# Altium schematic symbol library ESP32_Board_Components.SchLib: 7 symbols
Pins are listed as number, name and electrical type; pins without a type are passive.

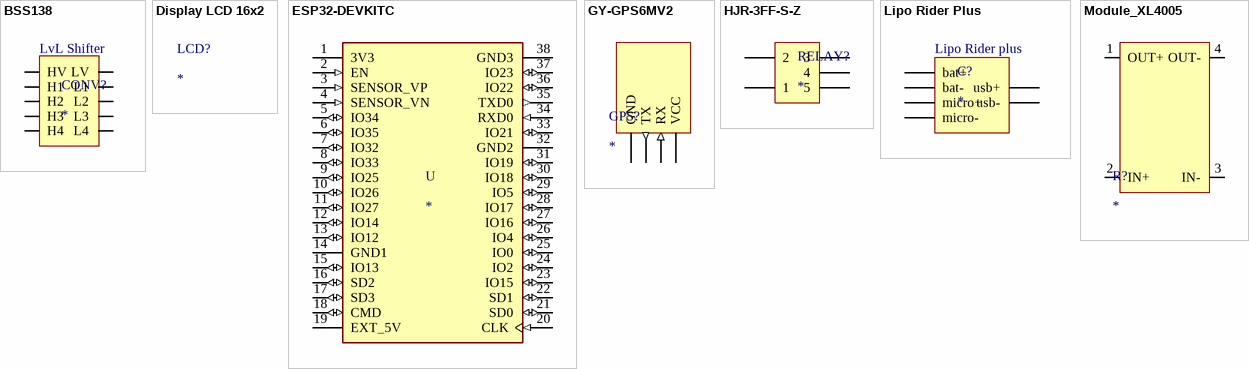
[diagram p0: symbols BSS138 to Module_XL4005]

## BSS138
designator CONV?
Logic Level Shifter, 4-Channel, Bidirectional; ComponentLink1Description: Dimensions; ComponentLink1URL: https://www.pololu.com/file/0J753/ls01a-logic-level-shifter-dimensions.pdf; ComponentLink2Description: BSS138; ComponentLink2URL: https://dlnmh9ip6v2uc.cloudfront.net/datasheets/BreakoutBoards/BSS138.pdf; ComponentLink3Description: Schematic; ComponentLink3URL: https://www.pololu.com/file/0J752/ls01a-logic-level-shifter-schematic.pdf; ComponentLink4Description: Techniques; ComponentLink4URL: https://www.pololu.com/file/0J1876/AN10441.pdf
footprint Level_Shifter (Footprint created for the level shifter)
pins: 1 H4 (io), 2 H3 (io), 3 H2 (io), 4 H1 (io), 5 HV (power), 6 LV (power), 7 L1 (io), 8 L2 (io), 9 L3 (io), 10 L4 (io)
text: LvL Shifter

## Display LCD 16x2
designator LCD?
D10-001 Display LCD 16x2 com I2C e Backlight Azul; ComponentLink1Description: Datasheet; ComponentLink1URL: https://www.filipeflop.com/img/files/download/Datasheet_Display_16x2.pdf; ComponentLink2Description: Purchase; ComponentLink2URL: https://www.eletrogate.com/display-lcd-16x2-i2c-backlight-azul?utm_source=Site&utm_medium=GoogleMerchant&utm_campaign=GoogleMerchant&gclid=Cj0KCQiA37KbBhDgARIsAIzce16UMUsbj4waIMZEoNA8N64a3EompWOn1tMNGwEHOIjKOZYXlWADNwAaAn2-EALw_wcB
footprint Display LCD

## ESP32-DEVKITC
designator U
- Transceiver; 802.11 b/g/n _Wi-Fi, WiFi, WLAN_, BluetoothÂ® Smart 4.x Low Energy _BLE_ For Use With ESP32-WROOM32; MF: Olimex LTD; MP: ESP32-DevKitC; Package: None; Price: None; Availability: Unavailable; SnapEDA_Link: https://www.snapeda.com/parts/ESP32-DevKitC/Olimex%20LTD/view-part/4219907/?ref=snap; Value: *
footprint MODULE_ESP32-DEVKITC
footprint MODULE_ESP32-DEVKITC HEADERS
pins: 1 3V3 (power), 2 EN (in), 3 SENSOR_VP (in), 4 SENSOR_VN (in), 5 IO34 (io), 6 IO35 (io), 7 IO32 (io), 8 IO33 (io), 9 IO25 (io), 10 IO26 (io), 11 IO27 (io), 12 IO14 (io), 13 IO12 (io), 14 GND1 (power), 15 IO13 (io), 16 SD2 (io), 17 SD3 (io), 18 CMD (io), 19 EXT_5V (power), 20 CLK (in), 21 SD0 (io), 22 SD1 (io), 23 IO15 (io), 24 IO2 (io), 25 IO0 (io), 26 IO4 (io), 27 IO16 (io), 28 IO17 (io), 29 IO5 (io), 30 IO18 (io), 31 IO19 (io), 32 GND2 (power), 33 IO21 (io), 34 RXD0 (in), 35 TXD0 (out), 36 IO22 (io), 37 IO23 (io), 38 GND3 (power)

## GY-GPS6MV2
designator GPS?
Module GPS NEO-6 u-blox 6 GPS Module; ComponentLink1Description: Datasheet; ComponentLink1URL: https://br.mouser.com/datasheet/2/1025/NEO_6_DataSheet__GPS_G6_HW_09005_-2010081.pdf
footprint Module_GPS (Module GPS ublox NEO-6M 3,3V UART)
footprint Module_GPS Header (Module GPS ublox NEO-6M 3,3V UART)
pins: 1 GND (power), 2 TX (out), 3 RX (in), 4 VCC (power)

## HJR-3FF-S-Z
designator RELAY?
Relay 12Vdc 5 pinos com contato reversível 10A; ComponentLink1Description: Datasheet; ComponentLink1URL: https://pdf1.alldatasheet.com/datasheet-pdf/view/1314971/ETC1/HJR-3FF-S-HF.html
footprint RELAY 12V (Relé de 12 V)
pins: 1 (power), 2 (power), 3 (power), 4 (power), 5 (power)

## Lipo Rider Plus
designator C?
Lipo Rider plus Charger Booster 5V/2.4A or 3.3V/250mA USB Type C; ComponentLink2Description: Purchase; ComponentLink2URL: https://www.kiwi-electronics.com/nl/lipo-rider-plus-charger-booster-5v-2-4a-usb-type-c-9960
footprint Lipo Rider Plus
pins: 1 bat+ (power), 2 bat- (power), 3 micro+ (power), 4 micro- (power), 5 usb+ (power), 6 usb- (power)
text: Lipo Rider plus

## Module_XL4005
designator R?
Module XL4005 voltage regulator step down 5A
footprint Module_XL4005 (Module with XL4005 voltage regulator step down 5A)
footprint Module_XL4005 HEADERS (Module with XL4005 voltage regulator step down 5A)
pins: 1 OUT+ (power), 2 IN+ (power), 3 IN- (power), 4 OUT- (power)